# Altium schematic symbol library MechatronicsSCH.SchLib: 65 symbols
Pins are listed as number, name and electrical type; pins without a type are passive.

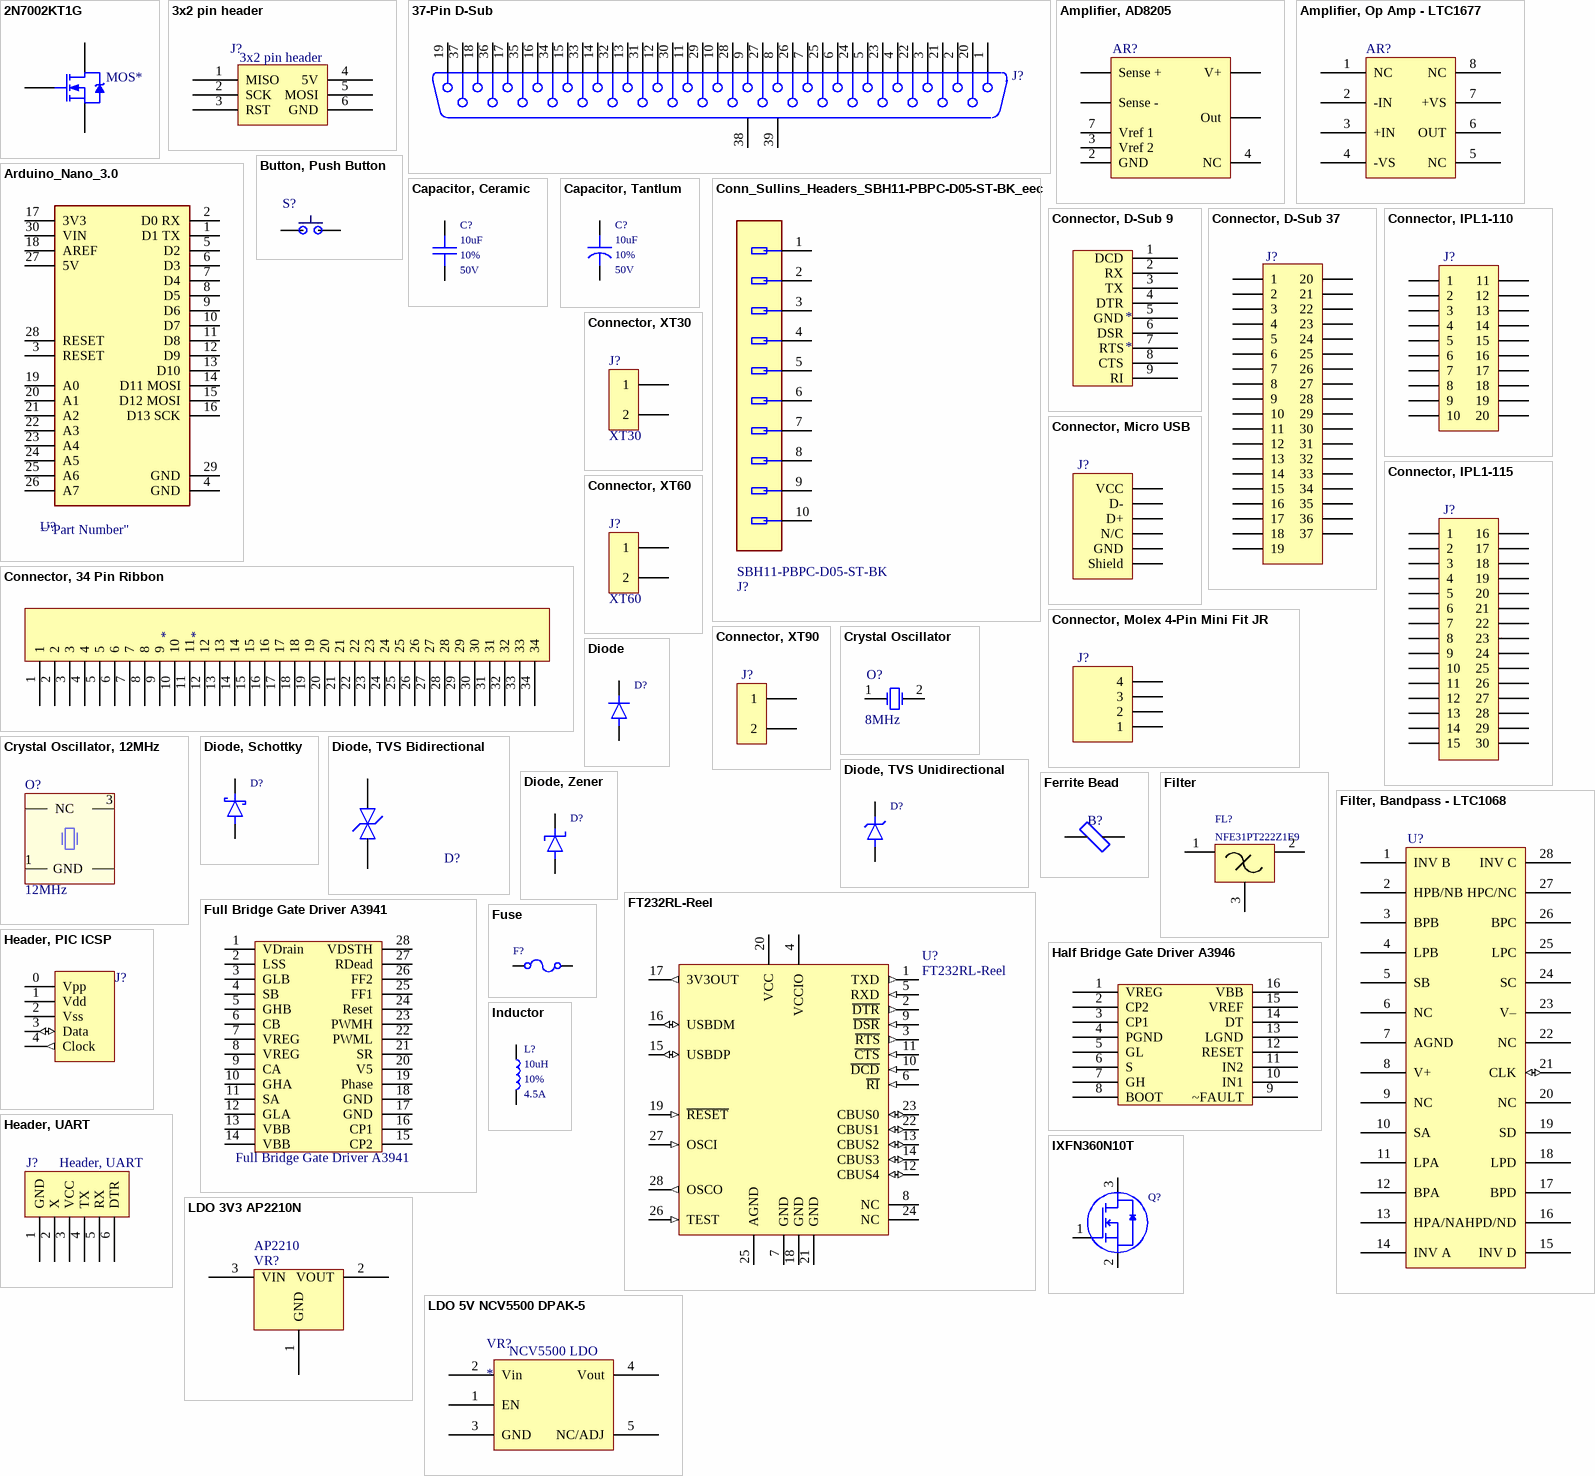
[diagram p0: symbols 2N7002KT1G to LDO 5V NCV5500 DPAK-5]

## 2N7002KT1G
designator MOS*  (value not drawn)
N-Channel Power MOSFET; Note: Pin 2 is electrically connected to pin 4.; Published: 8-Jun-2000; LatestRevisionDate: 17-Jul-2002; LatestRevisionNote: Re-released for DXP Platform.; DatasheetVersion: PD-9.814; PackageVersion: Feb-1997; PackageReference: TO-220AB; Publisher: Altium Limited; PackageDescription: TO, Thru-Hole, Vertical, Heatsink Mounted; 3 In-Line Leads; Pitch 2.54 mm; ComponentLink1Description: Manufacturer Link; ComponentLink1URL: http://www.irf.com/
footprint SOT-23_L (SOT23, 3-Leads, Body 2.9x1.3mm, Pitch 0.95mm, Lead Span 2.5mm, IPC High Density)
pins: 1 G, 2 D, 3 S

## 3x2 pin header
designator J?
footprint 3x2 header
pins: 1 MISO, 2 SCK, 3 RST, 4 5V, 5 MOSI, 6 GND

## 37-Pin D-Sub
designator J?, comment D-SUB 37-Pin  (value not drawn)
footprint DSUB37RightAngle
pins: 1, 2, 3, 4, 5, 6, 7, 8, 9, 10, 11, 12, 13, 14, 15, 16, 17, 18, 19, 20, 21, 22, 23, 24, 25, 26, 27, 28, 29, 30, 31, 32, 33, 34, 35, 36, 37, 38 MH1, 39 MH2

## Amplifier, AD8205
designator AR?  (value not drawn)
pins: 1 Sense -, 2 GND, 3 Vref 2, 4 NC, 5 Out, 6 V+, 7 Vref 1, 8 Sense +

## Amplifier, Op Amp - LTC1677
designator AR?, comment LT1677 SO8 Package  (value not drawn)
Low Noise, Rail-to-Rail Precision Op Amp
footprint S8_N (8-Pin Small Outline Integrated Circuit 1.27 mm Pitch, IPC Medium Density)
pins: 1 NC, 2 -IN, 3 +IN, 4 -VS, 5 NC, 6 OUT, 7 +VS, 8 NC

## Arduino_Nano_3.0
designator U?  (value not drawn)
footprint Arduino_Arduino_Nano_3.0_0
pins: 1 D1 TX, 2 D0 RX, 3 RESET, 4 GND, 5 D2, 6 D3, 7 D4, 8 D5, 9 D6, 10 D7, 11 D8, 12 D9, 13 D10, 14 D11 MOSI, 15 D12 MOSI, 16 D13 SCK, 17 3V3, 18 AREF, 19 A0, 20 A1, 21 A2, 22 A3, 23 A4, 24 A5, 25 A6, 26 A7, 27 5V, 28 RESET, 29 GND, 30 VIN

## Button, Push Button
designator S?
SMD Push Button; manufacturer: C&K; PART#: RACON 8
footprint PSH_BTN-smd (C&K RACON8 smd push-button)
pins: 0, 1

## Capacitor, Ceramic
designator C?, comment Capacitance: 10uF  Tolerance: 10%  Voltage: 50V  (hidden comment: Ceramic Capacitor)
*
footprint Component 0805 (Chip Capacitor; Body 2.0 x 1.2 mm (LxW typ))
pins: 1, 2

## Capacitor, Tantlum
designator C?, comment Capacitance: 10uF  Tolerance: 10%  Voltage: 50V  (hidden comment: Tantalum Capacitor)
Low ESR Polymer Electrolytic Capacitor
footprint Component 0805 (Chip Capacitor; Body 2.0 x 1.2 mm (LxW typ))
pins: 1, 2

## Conn_Sullins_Headers_SBH11-PBPC-D05-ST-BK_eec
designator J?  Part Number: SBH11-PBPC-D05-ST-BK
CONN 10 Positions Header Connector 0.100" (2.54mm) Through Hole Gold; Manufacturer: Sullins Headers; Current Rating: 3 Amps; Insulation Resistance: 5000 Megohms Min.; Dielectric Withstanding: 1000 VAC; Symbol 0 0: Standard; Num Pins: 10; helpURL: https://upverter.com/upn/revision/2cdea3ecd1cfac0f/; ComponentLink2Description: Datasheet; Temperature: -40°C to +105°C; Package: HDR10; Supplier 2: Mouser; Supplier 1: Digi-Key; ComponentLink1URL: https://upverter.com/upn/revision/2cdea3ecd1cfac0f/; Supplier Part Number 1: S9169-ND; ComponentLink1Description: Upverter; ComponentLink2URL: https://drawings-pdf.s3.amazonaws.com/11091.pdf; RoHS: TRUE; Temperature Range High: +105°C; Temperature Range Low: -40°C; Digikey Part Number: S9169-ND; Type: integrated circuit; Lead Free: yes; Digikey Description: CONN 10 Positions Header Connector 0.100" (2.54mm) Through Hole Gold
footprint Sullins_Headers_SBH11-PBPC-D05-ST-BK_0
pins: 1, 2, 3, 4, 5, 6, 7, 8, 9, 10

## Connector, 34 Pin Ribbon
designator *
footprint 34 Pin Ribbon Connector
pins: 1, 2, 3, 4, 5, 6, 7, 8, 9, 10, 11, 12, 13, 14, 15, 16, 17, 18, 19, 20, 21, 22, 23, 24, 25, 26, 27, 28, 29, 30, 31, 32, 33, 34

## Connector, D-Sub 9
designator *
footprint 9Pin D-Sub
pins: 1 DCD, 2 RX, 3 TX, 4 DTR, 5 GND, 6 DSR, 7 RTS, 8 CTS, 9 RI

## Connector, D-Sub 37
designator J?  (value not drawn)
footprint D-Sub 37
pins: 1, 2, 3, 4, 5, 6, 7, 8, 9, 10, 11, 12, 13, 14, 15, 16, 17, 18, 19, 20, 21, 22, 23, 24, 25, 26, 27, 28, 29, 30, 31, 32, 33, 34, 35, 36, 37

## Connector, IPL1-110
designator J?  (value not drawn)
Samtec Mini-Mate 20 Pin Receptacle
footprint IPL1-110
pins: 1, 2, 3, 4, 5, 6, 7, 8, 9, 10, 11, 12, 13, 14, 15, 16, 17, 18, 19, 20

## Connector, IPL1-115
designator J?  (value not drawn)
Samtec Mini-Mate 30 Pin Receptacle
footprint IPL1-115
pins: 1, 2, 3, 4, 5, 6, 7, 8, 9, 10, 11, 12, 13, 14, 15, 16, 17, 18, 19, 20, 21, 22, 23, 24, 25, 26, 27, 28, 29, 30

## Connector, Micro USB
designator J?
Molex microUSB 0473460001
footprint Micro Usb
pins: 1 VCC, 2 D-, 3 D+, 4 N/C, 5 GND, 6 Shield

## Connector, Molex 4-Pin Mini Fit JR
designator J?  (value not drawn)
footprint Molex Mini-Fit Jr 4 Pin
pins: 1, 2, 3, 4

## Connector, XT30
designator J?, comment XT30
footprint Connector, XT30
pins: 1, 2

## Connector, XT60
designator J?, comment XT60
footprint Connector, XT60
pins: 1, 2

## Connector, XT90
designator J?
pins: 1, 2

## Crystal Oscillator
designator O?  freq: 8MHz  (hidden comment: Crystal Oscillator)
*
footprint HC/49US
pins: 1 OSC1, 2 OSC2

## Crystal Oscillator, 12MHz
designator O?, comment 12MHz
footprint Crystal Oscillator, 12MHz
pins: 1 OSC1, 2 GND, 3 OSC2, 4 NC

## Diode
designator D?  (value not drawn)
pins: 1 Cathode, 2 Anode

## Diode, Schottky
designator D?  (value not drawn)
*
pins: 1 Cathode, 2 Anode

## Diode, TVS Bidirectional
designator D?  (value not drawn)
footprint SOD-123W
pins: An 26, Cat

## Diode, TVS Unidirectional
designator D?  (value not drawn)
pins: 1 Cathode, 2 Anode

## Diode, Zener
designator D?
Zener Diode, 17V 150mW
footprint SOD-123 (SOD-123; 2 Leads; Body 2.7 x 1.6 mm, (LxW))
pins: 1 Cathode, 2 Anode

## Ferrite Bead
designator B?  (value not drawn)
*; Ferrite Bead: 200 Ohm @ 25 Mhz
footprint Component 0805 (Chip Capacitor; Body 2.0 x 1.2 mm (LxW typ))
pins: 1, 2

## Filter
designator FL?, comment NFE31PT222Z1E9
EMI Suppression Filter
pins: 1, 2, 3

## Filter, Bandpass - LTC1068
designator U?, comment LTC1068-25IG SSOP-28  (value not drawn)
Clock-Tunable, Quad Second Order, Bandpass Filter
footprint SSOP-28 (SSOP, Plastic; 28 Leads; Body Width 5.2 mm; Pitch 0.65 mm)
pins: 1 INV B, 2 HPB/NB, 3 BPB, 4 LPB, 5 SB, 6 NC, 7 AGND, 8 V+ (power), 9 NC, 10 SA, 11 LPA, 12 BPA, 13 HPA/NA, 14 INV A, 15 INV D, 16 HPD/ND, 17 BPD, 18 LPD, 19 SD, 20 NC, 21 CLK (io), 22 NC, 23 V– (power), 24 SC, 25 LPC, 26 BPC, 27 HPC/NC, 28 INV C

## FT232RL-Reel
designator U?
USB UART Asynchronous Serial Data Transfer Chip, 28-pin SSOP, Tape and Reel; Manufacturer: FTDI; DatasheetVersion: ver 2.10, Mar-2012; PackageVersion: Mar-12; PackageReference: SSOP-28; PackageDescription: 28-Pin Small Outline Package 0.65 mm Pitch; PartNumber: FT232RL-Reel; ComponentLink1Description: Manufacturer URL; ComponentLink1URL: http://www.ftdichip.com/; ComponentLink2Description: Datasheet; ComponentLink2URL: http://www.ftdichip.com/Support/Documents/DataSheets/ICs/DS_FT232R.pdf
footprint SSOP-SS28_N (SOP, 28-Leads, Body 10.2x5.2mm, Pitch 0.65mm, IPC Medium Density)
pins: 1 TXD (out), 2 ~{DTR} (out), 3 ~{RTS} (out), 4 VCCIO (power), 5 RXD (in), 6 ~{RI} (in), 7 GND (power), 8 NC, 9 ~{DSR} (in), 10 ~{DCD} (in), 11 ~{CTS} (in), 12 CBUS4 (io), 13 CBUS2 (io), 14 CBUS3 (io), 15 USBDP (io), 16 USBDM (io), 17 3V3OUT (out), 18 GND (power), 19 ~{RESET} (in), 20 VCC (power), 21 GND (power), 22 CBUS1 (io), 23 CBUS0 (io), 24 NC, 25 AGND (power), 26 TEST (in), 27 OSCI (in), 28 OSCO (out)

## Full Bridge Gate Driver A3941
designator ?
*
footprint TSSOP-28
pins: 1 VDrain, 2 LSS, 3 GLB, 4 SB, 5 GHB, 6 CB, 7 VREG, 8 VREG, 9 CA, 10 GHA, 11 SA, 12 GLA, 13 VBB, 14 VBB, 15 CP2, 16 CP1, 17 GND, 18 GND, 19 Phase, 20 V5, 21 SR, 22 PWML, 23 PWMH, 24 Reset, 25 FF1, 26 FF2, 27 RDead, 28 VDSTH

## Fuse
designator F?  (value not drawn)
Bussmann 5mm Fuse Holder
footprint Fuse Holder
pins: 1, 2

## Half Bridge Gate Driver A3946
designator *  (value not drawn)
footprint TSSOP-16
pins: 1 VREG, 2 CP2, 3 CP1, 4 PGND, 5 GL, 6 S, 7 GH, 8 BOOT, 9 ~FAULT, 10 IN1, 11 IN2, 12 RESET, 13 LGND, 14 DT, 15 VREF, 16 VBB

## Header, PIC ICSP
designator J?
*
footprint Pic ICSP Array
pins: 0 Vpp (power), 1 Vdd (power), 2 Vss (power), 3 Data (io), 4 Clock (out)

## Header, UART
designator J?
footprint USB Header
pins: 1 GND, 2 X, 3 VCC, 4 TX, 5 RX, 6 DTR

## Inductor
designator L?  Inductance: 10uH  Tolerance: 10%  Current: 4.5A  (hidden comment: Inductor)
Low Profile, High Current IHLP Inductors
pins: 1, 2

## IXFN360N10T
designator Q?  (value not drawn)
N-Channel MOSFET 830W
footprint IXFN360N10T (N-Channel MOSFET 830W)
pins: 1 Gate, 2 Source, 3 Drain

## LDO 3V3 AP2210N
designator VR?, comment AP2210
footprint SOT-23 (SOT-23; 3 Leads; Body 3.1 x 2.5 mm, inc. leads (LxW max))
pins: 1 GND, 2 VOUT, 3 VIN

## LDO 5V NCV5500 DPAK-5
designator VR?
5V NCV5500
footprint DPAK-5 (DPAK-5 for LDO NVC5500)
pins: 1 EN (power), 2 Vin, 3 GND (power), 4 Vout (power), 5 NC/ADJ (power)
text: NCV5500 LDO

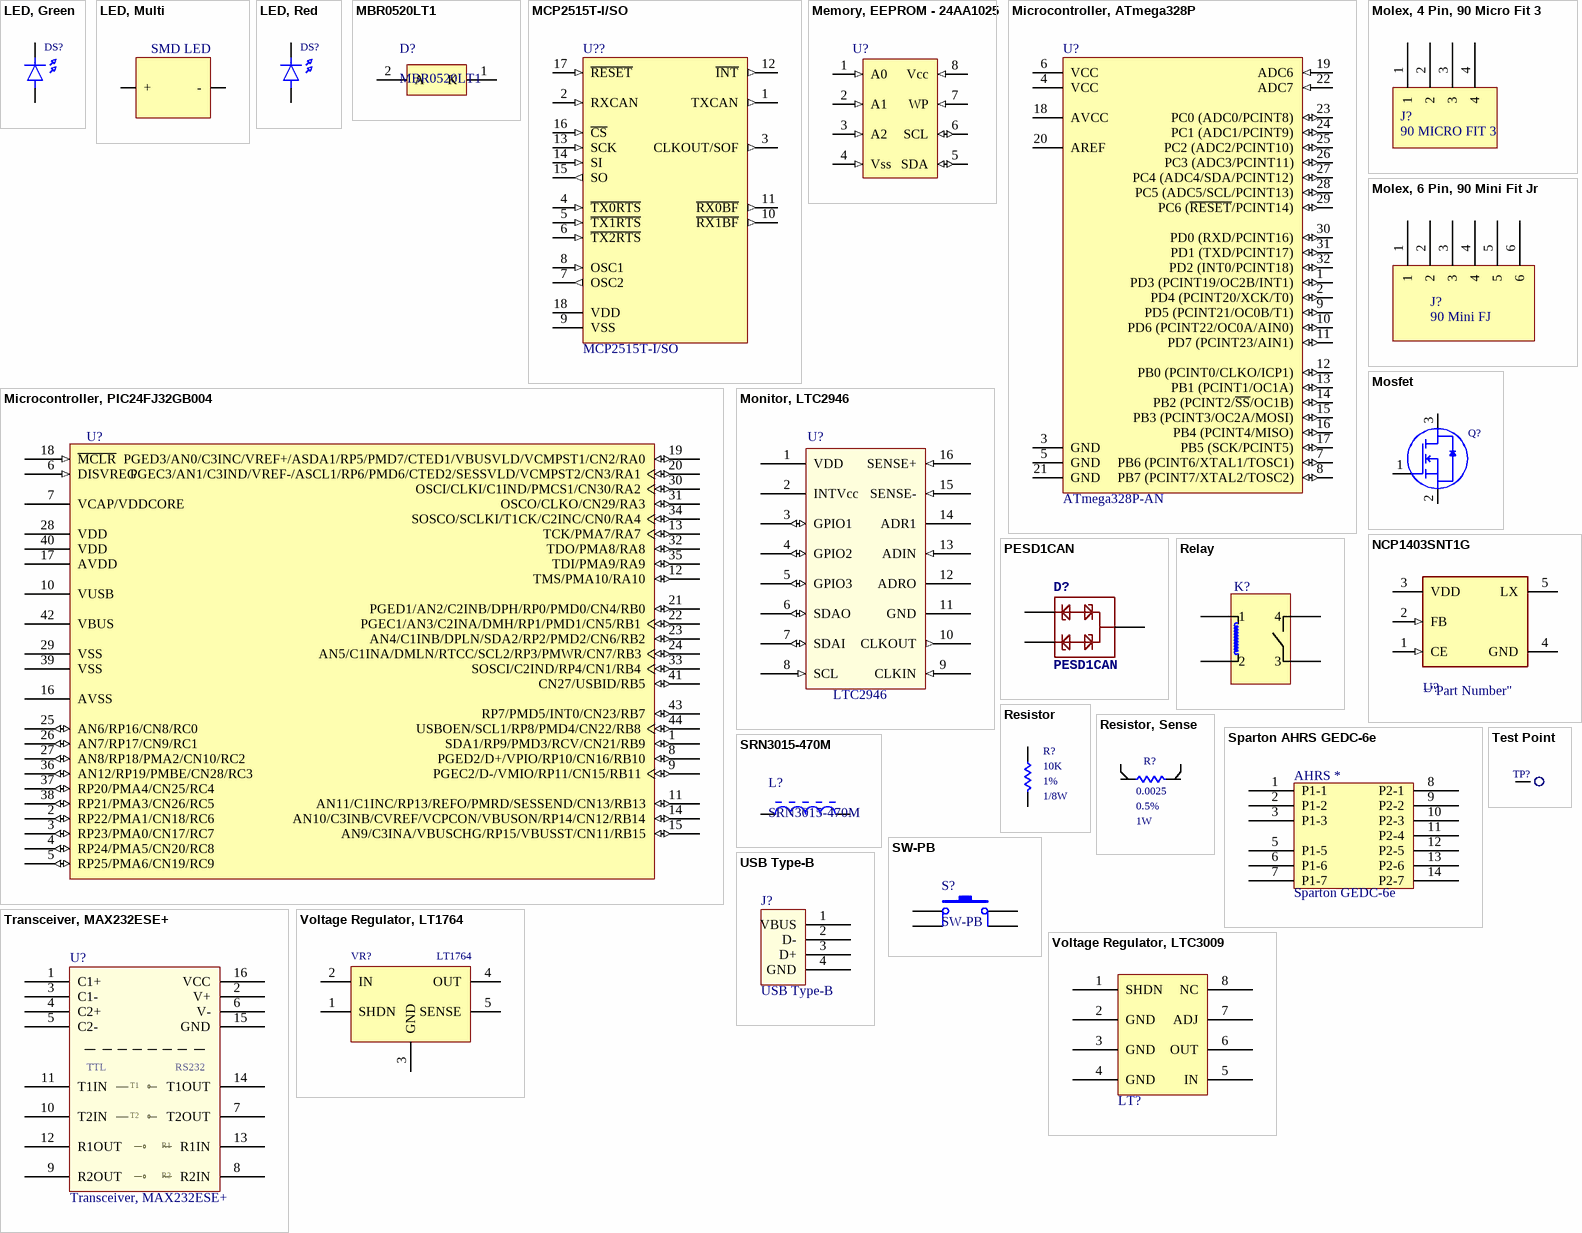
[diagram p1: symbols LED, Green to Voltage Regulator, LTC3009]

## LED, Green
designator DS?  (value not drawn)
footprint LED GREEN 0805
pins: 1 Cathode, 2 Anode

## LED, Multi
designator SMD LED, comment Cree MLB SMD LED  (value not drawn)
*
footprint Cree MLB SMD LED
pins: 0 + (power), 1 - (power)

## LED, Red
designator DS?  (value not drawn)
footprint LED RED 0805
pins: 1 Cathode, 2 Anode

## MBR0520LT1
designator D?
Schottky Power Rectifier, 2-Pin SOD-123, Tape and Reel; Manufacturer: On Semiconductor; IFSM Max (A): 5.5; Configuration: Single; ComponentLink1Description: Manufacturer URL; ComponentLink2Description: Datasheet; DatasheetVersion: Rev. 6; PackageReference: SOD-123-2-425-04; ComponentLink3URL: http://www.onsemi.com/pub_link/Collateral/425-04.PDF; ComponentLink3Description: Package Specification; ComponentLink1URL: http://www.onsemi.com/; ComponentLink2URL: http://www.onsemi.cn/pub_link/Collateral/MBR0520LT1-D.PDF; Packing: Tape and Reel; PackageVersion: Rev. G, 10/2009; PartNumber: MBR0520LT1; PackageDescription: 2-Pin SOD, Body 1.6 x 2.69 mm; Mounting Technology: Surface Mount; RoHS: FALSE
footprint ONSC-SOD-123-2-425-04_V (SOD, 2-Leads, Body 2.69x1.6mm)
pins: 1 K, 2 A

## MCP2515T-I/SO
designator U??
Stand-Alone CAN Controller With SPI Interface, 18-Pin SOIC, Industrial Temperature, Tape and Reel; Manufacturer: Microchip; DatasheetVersion: revF, Oct-2010; PackageVersion: revBB, Aug-2009; PackageReference: SOIC-SO18; PackageDescription: 18-Lead Plastic Small Outline (SO) - Wide 7.50mm Body [SOIC]; Supplier 1: Digi-Key; Supplier Part Number 1: MCP2515T-I/SO-ND; Supplier 2: Farnell; Supplier Part Number 2: 1815922; Supplier 3: Newark; Supplier Part Number 3: 29H7139; Supplier 4: Mouser; Supplier Part Number 4: 579-MCP2515T-I/SO; Mounting Technology: Surface Mount; Code_JEDEC: MS-013; PartNumber: MCP2515T-I/SO; ComponentLink1Description: Manufacturer URL; ComponentLink1URL: http://www.microchip.com/; ComponentLink2Description: Datasheet; ComponentLink2URL: http://ww1.microchip.com/downloads/en/DeviceDoc/21801f.pdf; ComponentLink3Description: Package Specification; ComponentLink3URL: http://www.microchip.com/stellent/groups/techpub_sg/documents/packagingspec/en012702.pdf
footprint SOIC-SO18_N (SOIC, 18-Leads, Body 11.5x7.5mm, Pitch 1.27mm, IPC Medium Density)
footprint SOIC-SO18_L (SOIC, 18-Leads, Body 11.5x7.5mm, Pitch 1.27mm, IPC High Density)
footprint SOIC-SO18_M (SOIC, 18-Leads, Body 11.5x7.5mm, Pitch 1.27mm, IPC Low Density)
pins: 1 TXCAN (out), 2 RXCAN (in), 3 CLKOUT/SOF (out), 4 ~{TX0RTS} (in), 5 ~{TX1RTS} (in), 6 ~{TX2RTS} (in), 7 OSC2 (out), 8 OSC1 (in), 9 VSS (power), 10 ~{RX1BF} (out), 11 ~{RX0BF} (out), 12 ~{INT} (out), 13 SCK (in), 14 SI (in), 15 SO (out), 16 ~{CS} (in), 17 ~{RESET} (in), 18 VDD (power)

## Memory, EEPROM - 24AA1025
designator U?  (value not drawn)
I2C Serial EEPROM
footprint SOIC 8 (8-Pin Plastic Narrow Body Small Outline Integrated Circuit 1.27 mm Pitch, IPC Medium Density)
pins: 1 A0 (in) "User Configurable Chip Select", 2 A1 (in) "User Configerable Chip Select", 3 A2 (in) "Non-Configurable Chip Select", 4 Vss (in) "Ground", 5 SDA (io) "Serial Data", 6 SCL (io) "Serial Clock", 7 WP (in) "Write Protect", 8 Vcc (in) "+1.7V to 5.5V"

## Microcontroller, ATmega328P
designator U?, comment ATmega328P-AN
8-bit AVR Microcontroller, 32KB Flash, 1KB EEPROM, 2KB SRAM, 32-pin TQFP, Industrial Grade (-40°C to 105°C); DatasheetVersion: revD, May-2011; PackageVersion: revC, Oct-2010; PackageReference: 32A; PackageDescription: 32-Lead, 7x7x1.0 mm Body, 0.8mm Lead Pitch, Thin Profile Plastic Quad Flat Package (TQFP); Code_JEDEC: MS-026-ABA; ComponentLink1Description: Manufacturer URL; ComponentLink1URL: http://www.atmel.com/; ComponentLink2Description: ATmega48A/48PA/88A/88PA/168A/168PA/328/328P Datasheet; ComponentLink2URL: http://www.atmel.com/dyn/resources/prod_documents/8271.pdf; ComponentLink3Description: ATmega48A/48PA/88A/88PA/168A/168PA/328/328P Summary; ComponentLink3URL: http://www.atmel.com/dyn/resources/prod_documents/8271S.pdf
footprint 32A_N (Thin QFP, 32-Leads, Body 7x7mm, Pitch 0.8mm, IPC Medium Density)
footprint 32A_L (Thin QFP, 32-Leads, Body 7x7mm, Pitch 0.8mm, IPC High Density)
footprint 32A_M (Thin QFP, 32-Leads, Body 7x7mm, Pitch 0.8mm, IPC Low Density)
pins: 1 PD3 (PCINT19/OC2B/INT1) (io), 2 PD4 (PCINT20/XCK/T0) (io), 3 GND (power), 4 VCC (power), 5 GND (power), 6 VCC (power), 7 PB6 (PCINT6/XTAL1/TOSC1) (io), 8 PB7 (PCINT7/XTAL2/TOSC2) (io), 9 PD5 (PCINT21/OC0B/T1) (io), 10 PD6 (PCINT22/OC0A/AIN0) (io), 11 PD7 (PCINT23/AIN1) (io), 12 PB0 (PCINT0/CLKO/ICP1) (io), 13 PB1 (PCINT1/OC1A) (io), 14 PB2 (PCINT2/~{SS}/OC1B) (io), 15 PB3 (PCINT3/OC2A/MOSI) (io), 16 PB4 (PCINT4/MISO) (io), 17 PB5 (SCK/PCINT5) (io), 18 AVCC (power), 19 ADC6 (in), 20 AREF, 21 GND (power), 22 ADC7 (in), 23 PC0 (ADC0/PCINT8) (io), 24 PC1 (ADC1/PCINT9) (io), 25 PC2 (ADC2/PCINT10) (io), 26 PC3 (ADC3/PCINT11) (io), 27 PC4 (ADC4/SDA/PCINT12) (io), 28 PC5 (ADC5/SCL/PCINT13) (io), 29 PC6 (~{RESET}/PCINT14) (io), 30 PD0 (RXD/PCINT16) (io), 31 PD1 (TXD/PCINT17) (io), 32 PD2 (INT0/PCINT18) (io)

## Microcontroller, PIC24FJ32GB004
designator U?  (value not drawn)
*
footprint TQFP-44_N (44-Pin Thin Quad Flat Pack 0.8 mm Pitch, 1.0/0.1 mm Lead Form, IPC Medium Density)
pins: 1 SDA1/RP9/PMD3/RCV/CN21/RB9 (io), 2 RP22/PMA1/CN18/RC6 (io), 3 RP23/PMA0/CN17/RC7 (io), 4 RP24/PMA5/CN20/RC8 (io), 5 RP25/PMA6/CN19/RC9 (io), 6 DISVREG (in), 7 VCAP/VDDCORE (power), 8 PGED2/D+/VPIO/RP10/CN16/RB10 (io), 9 PGEC2/D-/VMIO/RP11/CN15/RB11 (io), 10 VUSB (power), 11 AN11/C1INC/RP13/REFO/PMRD/SESSEND/CN13/RB13 (io), 12 TMS/PMA10/RA10 (io), 13 TCK/PMA7/RA7 (io), 14 AN10/C3INB/CVREF/VCPCON/VBUSON/RP14/CN12/RB14 (io), 15 AN9/C3INA/VBUSCHG/RP15/VBUSST/CN11/RB15 (io), 16 AVSS (power), 17 AVDD (power), 18 ~{MCLR} (in), 19 PGED3/AN0/C3INC/VREF+/ASDA1/RP5/PMD7/CTED1/VBUSVLD/VCMPST1/CN2/RA0 (io), 20 PGEC3/AN1/C3IND/VREF-/ASCL1/RP6/PMD6/CTED2/SESSVLD/VCMPST2/CN3/RA1 (io), 21 PGED1/AN2/C2INB/DPH/RP0/PMD0/CN4/RB0 (io), 22 PGEC1/AN3/C2INA/DMH/RP1/PMD1/CN5/RB1 (io), 23 AN4/C1INB/DPLN/SDA2/RP2/PMD2/CN6/RB2 (io), 24 AN5/C1INA/DMLN/RTCC/SCL2/RP3/PMWR/CN7/RB3 (io), 25 AN6/RP16/CN8/RC0 (io), 26 AN7/RP17/CN9/RC1 (io), 27 AN8/RP18/PMA2/CN10/RC2 (io), 28 VDD (power), 29 VSS (power), 30 OSCI/CLKI/C1IND/PMCS1/CN30/RA2 (io), 31 OSCO/CLKO/CN29/RA3 (io), 32 TDO/PMA8/RA8 (io), 33 SOSCI/C2IND/RP4/CN1/RB4 (io), 34 SOSCO/SCLKI/T1CK/C2INC/CN0/RA4 (io), 35 TDI/PMA9/RA9 (io), 36 AN12/RP19/PMBE/CN28/RC3 (io), 37 RP20/PMA4/CN25/RC4 (io), 38 RP21/PMA3/CN26/RC5 (io), 39 VSS (power), 40 VDD (power), 41 CN27/USBID/RB5 (io), 42 VBUS (power), 43 RP7/PMD5/INT0/CN23/RB7 (io), 44 USBOEN/SCL1/RP8/PMD4/CN22/RB8 (io)

## Molex, 4 Pin, 90 Micro Fit 3
designator J?, comment 90 MICRO FIT 3
*
footprint MOLEX 4 PIN 90 MICRO FIT 3
pins: 1, 2, 3, 4

## Molex, 6 Pin, 90 Mini Fit Jr
designator J?, comment 90 Mini FJ
*
footprint Molex 6 Pin 90 Mini FJ (Molex Mini-Fit Jr 6 Pin Connector)
pins: 1, 2, 3, 4, 5, 6

## Monitor, LTC2946
designator U?, comment LTC2946
Wide Range I2C Power, Charge and Energy Monitor
footprint MSOP-16 (LTC 2946 16 Pin MSOP)
pins: 1 VDD (power), 2 INTVcc (power), 3 GPIO1 (io), 4 GPIO2 (io), 5 GPIO3 (io), 6 SDAO (io), 7 SDAI (io), 8 SCL (in), 9 CLKIN (in), 10 CLKOUT (out), 11 GND, 12 ADRO, 13 ADIN (in), 14 ADR1, 15 SENSE- (in), 16 SENSE+ (in)

## Mosfet
designator Q?  (value not drawn)
pins: 1 Gate, 2 Source, 3 Drain

## NCP1403SNT1G
designator U?  (value not drawn)
Boost Converter
footprint ON_Semi_483_0 (Boost Converter)
pins: 1 CE (in), 2 FB (in), 3 VDD (power), 4 GND (power), 5 LX (power)

## PESD1CAN
designator D?
PESD1CAN is used to protect two automotive CAN bus lines from ESD.; PROD_ID: DIO-12501
footprint SOT23-3
footprint SOT23_L (SOT23, 3-Leads, Body 2.9x1.3mm, Pitch 0.95mm, Lead Span 2.3mm - Reverse Pinning, IPC High Density)
pins: 1, 2, 3

## Relay
designator K?  (value not drawn)
footprint OMRON RELAY PCB G4A-1A-PE
pins: 1, 2, 3, 4

## Resistor
designator R?  Resistance: 10K  Tolerance: 1%  Power: 1/8W  (hidden comment: Resistor)
Thick Film Resistors - SMD 1/16watt 1%
footprint Component 0805 (Chip Capacitor; Body 2.0 x 1.2 mm (LxW typ))
pins: 1, 2

## Resistor, Sense
designator R?, comment Resistance: 0.0025  Tolerance: 0.5%  Power: 1W  (hidden comment: Resistor)
Sense Resistor
pins: 1, 2, 3, 4

## Sparton AHRS GEDC-6e
designator AHRS *, comment Sparton GEDC-6e
footprint Sparton GEDC-6e
pins: 1 P1-1, 2 P1-2, 3 P1-3, 5 P1-5, 6 P1-6, 7 P1-7, 8 P2-1, 9 P2-2, 10 P2-3, 11 P2-4, 12 P2-5, 13 P2-6, 14 P2-7

## SRN3015-470M
designator L?
Semi-shielded Power Inductor, 47 uH, +/- 20%, 0.4 A, -40 to 125 degC, 3 x 3 x 1.5 mm SMD, RoHS and Halogen Free, Tape and Reel; Manufacturer: Bourns; Rated current: 0.4 A; DCR Max: 1.406 Ohm; SRF Min: 18 MHz; Inductance: 47 uH; Isat: 0.38 A; Resistance to Solder Heat: +260 degC for 10 sec.; Inductance tolerance: +/- 20%; Operating Temperature: -40 to 125 degC; PartNumber: SRN3015-470M; ComponentLink1Description: Manufacturer URL; ComponentLink2Description: Datasheet; DatasheetVersion: Aug-11; ComponentLink3URL: http://www.bourns.com/data/global/pdfs/SRN3015.pdf; ComponentLink1URL: http://www.bourns.com/; Packing: Tape and Reel; ComponentLink2URL: http://www.bourns.com/data/global/pdfs/SRN3015.pdf; PackageReference: SRN3015; ComponentLink3Description: Package Specification; RoHS: TRUE; Mounting Technology: Surface Mount; PackageDescription: 2-Pin SMD, Body 3 x 3 mm, Height 1.5 mm
footprint BOUR-SRN3015-2_V (SMD, 2-Leads, Body 3x3mm, Height 1.5mm)
pins: 1, 2

## SW-PB
designator S?
Switch; Published: 24-Mar-1999; LatestRevisionDate: 17-Jul-2002; LatestRevisionNote: Re-released for DXP Platform.; PackageReference: SPST-2; Publisher: Altium Limited; PackageDescription: Switch; 2 Leads
footprint Push Button Reel
pins: 1, 2, 3, 4

## Test Point
designator TP?  (value not drawn)
footprint Test Point
pins: 1

## Transceiver, MAX232ESE+
designator U?
5V Multi Ch RS-232 Driver/Receiver
footprint SOIC 16 (SOIC, 16-Leads, Body 9.9x3.9mm, Pitch 1.27mm, IPC High Density)
pins: 1 C1+, 2 V+, 3 C1-, 4 C2+, 5 C2-, 6 V-, 7 T2OUT, 8 R2IN, 9 R2OUT, 10 T2IN, 11 T1IN, 12 R1OUT, 13 R1IN, 14 T1OUT, 15 GND, 16 VCC
text: TTL; RS232; T1; T2; R1; R2

## USB Type-B
designator J?
USB Type-B horizontal PCB
footprint USB type-b (digikey: 1175-1017-ND)
pins: 1 VBUS, 2 D-, 3 D+, 4 GND

## Voltage Regulator, LT1764
designator VR?, comment LT1764
3A, Fast Transient Response, Low Noise, LDO Regulators
pins: 1 SHDN, 2 IN, 3 GND, 4 OUT, 5 SENSE

## Voltage Regulator, LTC3009
designator LT?  (value not drawn)
*
footprint SC-8
pins: 1 SHDN, 2 GND, 3 GND, 4 GND, 5 IN, 6 OUT, 7 ADJ, 8 NC